# Altium footprint library Nixie Tubes.PcbLib: 5 footprints
Each footprint in its own frame and in the unit in brackets; x right, y up, seen from the top. Pads: shape width x height; smd on the part's side, far side on the other; paste and mask are expansions set on the pad; w line width, h text height; cw(c..) or ccw(c..) is an arc to the next point about the centre after c.
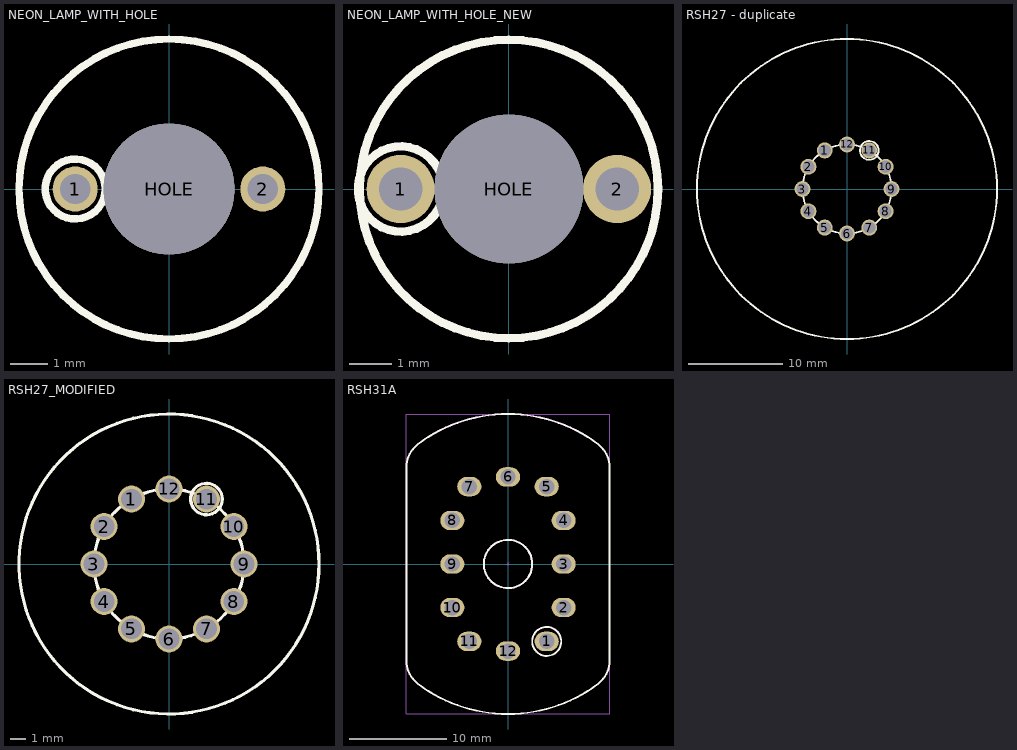
[diagram p0: the footprints below, top view; thin cyan lines are the x and y axes]

## NEON_LAMP_WITH_HOLE [mm] "INS-1, IN-3"
pads (3):
  round 1.2 hole 0.8 unplated mask+0.05: 1(-2.5,0) 2(2.5,0)
  round 3.5 hole 3.5 unplated mask+0.05: HOLE(0,0)
Top Overlay:
  circle w0.2: c-2.5,0 r0.8
  circle w0.2: c0,0 r4
Top Assembly:
  circle w0.05: c0,0 r4
Top Courtyard (Mech15):
  circle w0.05: c0,0 r4
Top Component Center:
  lines w0.05: -0.15,0 0.15,0 ; 0,-0.15 0,0.15
3D body "INS1.STEP": height 25, standoff -18.17, extent -3.5,-3.25 3.5,3.25

## NEON_LAMP_WITH_HOLE_NEW [mm] "INS-1, IN-3"
pads (3):
  round 1.6 hole 1.02 unplated mask+0.05: 1(-2.54,0) 2(2.54,0)
  round 3.5 hole 3.5 unplated mask+0.05: HOLE(0,0)
Top Overlay:
  circle w0.2: c0,0 r3.5
  circle w0.2: c-2.54,0 r1
Top Assembly:
  circle w0.05: c0,0 r3.5
Top Courtyard (Mech15):
  circle w0.05: c0,0 r3.5
Top Component Center:
  lines w0.05: -0.15,0 0.15,0 ; 0,-0.15 0,0.15
3D body "INS1.STEP": height 25, standoff -18.17, extent -3.5,-3.25 3.5,3.25

## RSH27 - duplicate [mm] "IN-4, IN-7, IN-18"
pads (12):
  round 1.7 hole 1.3 mask+0.05: 1(-2.375,4.114) 2(-4.114,2.375) 3(-4.75,0) 4(-4.114,-2.375) 5(-2.375,-4.114) 6(0,-4.75) 7(2.375,-4.114) 8(4.114,-2.375) 9(4.75,0) 10(4.114,2.375) 11(2.375,4.114) 12(0,4.75)
Top Overlay:
  circle w0.2: c2.375,4.114 r1
  circle w0.2: c0,0 r4.75
  circle w0.2: c0,0 r16

## RSH27_MODIFIED [mm] "IN-2, IN-8, IN-8-2"
pads (12):
  round 1.7 hole 1.3 mask+0.05: 1(-2.375,4.114) 2(-4.114,2.375) 3(-4.75,0) 4(-4.114,-2.375) 5(-2.375,-4.114) 6(0,-4.75) 7(2.375,-4.114) 8(4.114,-2.375) 9(4.75,0) 10(4.114,2.375) 11(2.375,4.114) 12(0,4.75)
Top Overlay:
  circle w0.2: c0,0 r9.5
  circle w0.2: c0,0 r4.75
  circle w0.2: c2.375,4.114 r1

## RSH31A [mm] "IN-12A, IN-12B, IN-15A, IN-15B"
pads (12):
  oval 2.5x2 hole 1.6 paste-2539.97 mask+0.05: 1(4,-8) 2(5.75,-4.5) 3(5.75,0) 4(5.75,4.5) 5(4,8) 6(0,9) 7(-4,8) 8(-5.75,4.5) 9(-5.75,0) 10(-5.75,-4.5) 11(-4,-8) 12(0,-9)
Top Overlay:
  circle w0.2: c0,0 r2.5
  circle w0.2: c4,-8 r1.5
  lines w0.2: -10.5,-10 ccw(c-7.586,-10) -9.647,-12.06 -9.328,-12.379 ccw(c0,0) 9.328,-12.379 9.647,-12.06 ccw(c7.586,-10) 10.5,-10 10.5,10 ccw(c7.586,10) 9.647,12.06 9.328,12.379 ccw(c0,0) -9.328,12.379 -9.647,12.06 ccw(c-7.586,10) -10.5,10 -10.5,-10
Top Assembly:
  circle w0.2: c0,0 r2.5
  lines w0.2: -7.75,13.423 cw(c0,0) 7.75,13.423
Top Courtyard (Mech15):
  lines w0.05: -10.5,-15.5 -10.5,15.5 10.5,15.5 10.5,-15.5 -10.5,-15.5
Top Component Center:
  lines w0.05: -0.15,0 0.15,0 ; 0,-0.15 0,0.15
Bottom 3D Body:
  lines w0.003: 0.192,0.129 0.193,0.129
3D body "IN-12A.stp": height 29, standoff -6, extent -10.5,-15.484 10.5,15.484